# EAGLE library part ATX (library minicirNew)
MiniCircuits fixed attenuators in through hole package
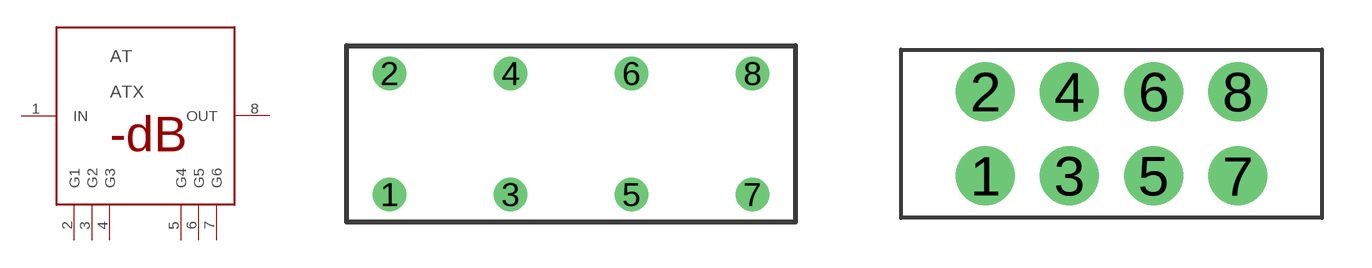
[diagram p6: symbol with the pads of A01; footprints A01, A11]

Designator prefix AT

## ATX  [A01]
1  IN  in
2  G1  sup
3  G2  sup
4  G3  sup
5  G4  sup
6  G5  sup
7  G6  sup
8  OUT  out

## ATXA11  [A11]
Pads as for A01

## Footprint A01 (pad centres in mm)
CASE STYLE A01 Source: minicircuits.com .. PBP-10.7+.pdf
drill 0.9 pad 1.422: 1 -10.16,-3.81; 2 -10.16,1.27; 3 -5.08,-3.81; 4 -5.08,1.27; 5 0,-3.81; 6 0,1.27; 7 5.08,-3.81; 8 5.08,1.27

## Footprint A11 (pad centres in mm)
MiniCircuits A11 style case
drill 0.8 pad 1.778: 1 -3.81,-1.27; 2 -3.81,1.27; 3 -1.27,-1.27; 4 -1.27,1.27; 5 1.27,-1.27; 6 1.27,1.27; 7 3.81,-1.27; 8 3.81,1.27